# Altium footprint library CommonFiles_Library.PcbLib: 24 footprints (part 1 of 2)
Each footprint in its own frame and in the unit in brackets; x right, y up, seen from the top. Pads: shape width x height; smd on the part's side, far side on the other; paste and mask are expansions set on the pad; w line width, h text height; cw(c..) or ccw(c..) is an arc to the next point about the centre after c.
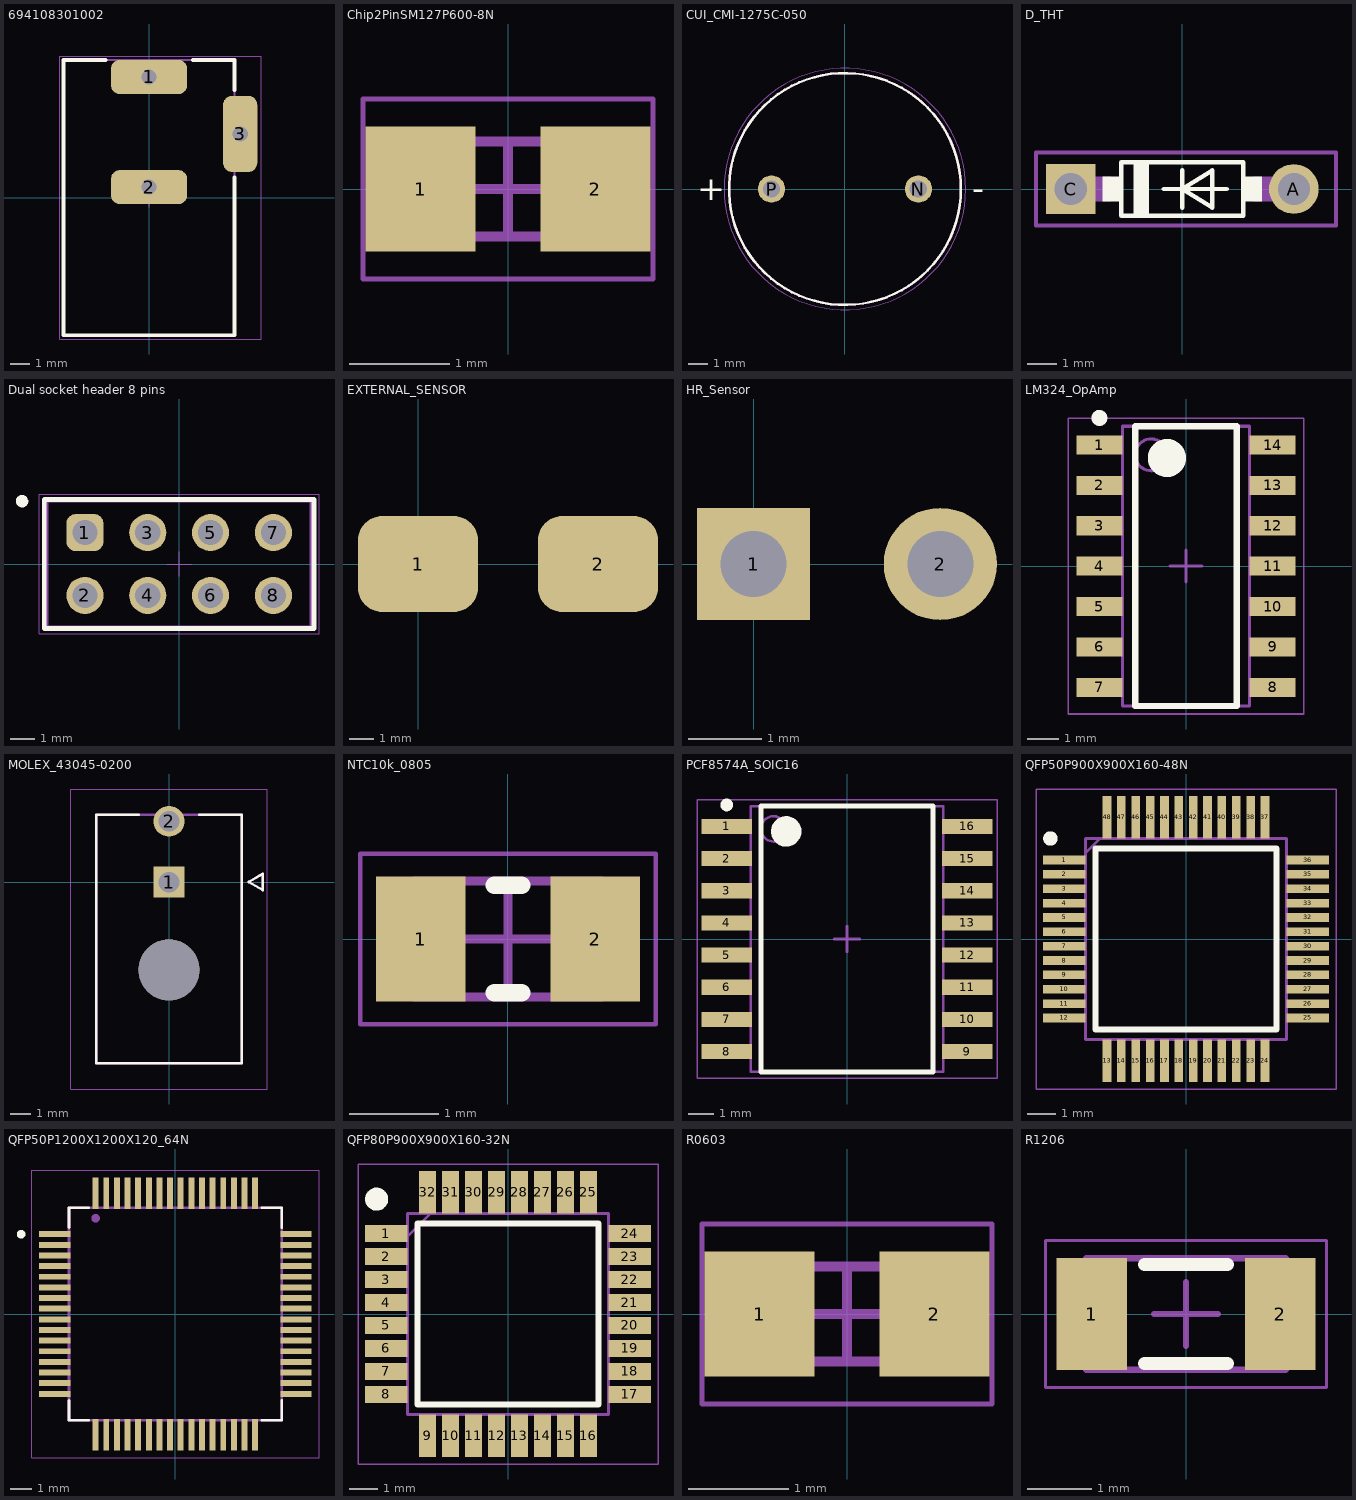
[diagram p0: the footprints below, top view; thin cyan lines are the x and y axes]

## 694108301002 [mm] "DC Power Jack Right Angled(6.4)"
height 10.7
pads (3):
  rrect50% 4x1.8 hole 0.8 square: 1(0,6.35) 2(0,0.55)
  rrect50% 1.8x4 hole 0.8 square: 3(4.8,3.35)
Top Overlay:
  lines w0.2: -2.3,7.25 -4.5,7.25 -4.5,-7.25 4.5,-7.25 4.5,1.05 ; 2.3,7.25 4.5,7.25 4.5,5.65
Top Designator:
  text ".Designator" at -7.498,-0.5 h1.5
Top Component Outline:
  lines w0.1: -4.5,-7.25 -4.5,7.25 4.5,7.25 4.5,-7.25 -4.5,-7.25
Top 3D Body:
  lines w0.1: -4.5,-7.25 4.5,-7.25 4.5,7.25 -4.5,7.25 -4.5,-7.25
Top Courtyard:
  lines w0.05: -0.5,0 0.5,0 ; 0,-0.5 0,0.5 ; -4.7,-7.45 -4.7,7.45 5.9,7.45 5.9,-7.45 -4.7,-7.45
3D body "694108301002.stp": height 10.75, standoff -3.75, extent -4.5,-7.25 5,7.25

## Chip2PinSM127P600-8N [mm]
height 0.97
pads (2):
  rect 1.1x1.25 smd: 1(-0.875,0) 2(0.875,0)
Top 3D Body:
  lines w0.1: -0.825,-0.475 0.825,-0.475 0.825,0.475 -0.825,0.475 -0.825,-0.475
Top Courtyard:
  lines w0.05: -1.45,-0.9 1.45,-0.9 1.45,0.9 -1.45,0.9 -1.45,-0.9
  lines w0.1: -0.475,0 0.475,0 ; 0,-0.475 0,0.475
3D body "Chip2PinSM127P600-8N.step": height 0.97, standoff 0, extent -0.825,-0.475 0.825,0.475

## CUI_CMI-1275C-050 [mm]
pads (2):
  round 1.408 hole 0.9: N(3.8,0) P(-3.8,0)
Top Overlay:
  circle w0.127: c0,0 r6
  text "-" at 6.593,-0.571 h1.27
  text "+" at -7.656,-0.571 h1.27
Top 3D Body:
  circle w0.127: c0,0 r6
Top Courtyard:
  circle w0.05: c0,0 r6.25
3D body "CMI-1275C-050.stp": height 8.1, standoff -5, extent -6,-5.988 6,5.988

## D_THT [mm]
pads (2):
  round 1.7 hole 1.1: A(3.81,0)
  rect 1.7x1.7 hole 1.1: C(-3.81,0)
Top Overlay:
  region: -2.082,-0.425 -2.718,-0.425 -2.718,0.425 -2.082,0.425
  region: 2.717,-0.425 2.083,-0.425 2.083,0.425 2.717,0.425
  region: -1.143,-0.951 -1.652,-0.951 -1.652,0.92 -1.143,0.92
  lines w0.152: -0.635,0 0,0 ; 0,-0.635 0,0 ; 0,0.635 0,0 ; 1.524,0 0,0 ; 0,0 1.016,0.635 1.016,-0.635 0,0 ; -2.082,-0.92 -2.082,0.92 2.082,0.92 2.082,-0.92 -2.082,-0.92
Top 3D Body:
  lines w0.85: -3.81,0 -2.519,0 ; 2.494,0 3.81,0
Top Courtyard:
  lines w0.127: -5,-1.25 -5,1.25 5.25,1.25 5.25,-1.25 -5,-1.25

## Dual socket header 8 pins [mm] "Socket Header, Pitch 2.54 mm, THT, Vertical, dual row, 8p"
height 8.4
pads (8):
  rrect50% 1.5x1.5 hole 1.02: 1(-3.81,1.27)
  round 1.5 hole 1.02: 2(-3.81,-1.27) 3(-1.27,1.27) 4(-1.27,-1.27) 5(1.27,1.27) 6(1.27,-1.27) 7(3.81,1.27) 8(3.81,-1.27)
Top Overlay:
  lines w0.2: -5.455,-2.615 5.455,-2.615 5.455,2.615 -5.455,2.615 -5.455,-2.615
  lines w0.25: -6.262,2.628 ccw(c-6.35,2.54) -6.225,2.54
Top Designator:
  text ".Designator" at -7.498,-0.5 h1.5
Top Component Outline:
  lines w0.1: -5.33,-2.54 -5.33,2.54 5.33,2.54 5.33,-2.54 -5.33,-2.54
Top Courtyard:
  lines w0.05: -5.655,-2.815 -5.655,2.815 5.655,2.815 5.655,-2.815 -5.655,-2.815
Top Component Center:
  lines w0.05: -0.5,0 0.5,0 ; 0,-0.5 0,0.5
3D body "61300821821.stp": height 8.45, standoff -3.05, extent -5.33,-2.54 5.33,2.54

## EXTERNAL_SENSOR [mm] "2 PADS FOR EXTERNAL SOLDERING"
pads (2):
  rrect50% 5x4 smd: 1(0,0) 2(7.5,0)

## HR_Sensor [mm]
pads (2):
  rect 1.54x1.524 hole 0.9: 1(0,0)
  oval 1.54x1.524 hole 0.9: 2(2.54,0)

## LM324_OpAmp [mm] "SOIC, 14-Leads, Body 8,65x3,90mm, Pitch 1,27mm, IPC Medium Density"
height 1.5
pads (14):
  rect 1.45x0.6 smd: 1(-2.725,3.81) 2(-2.725,2.54) 3(-2.725,1.27) 4(-2.725,0) 5(-2.725,-1.27) 6(-2.725,-2.54) 7(-2.725,-3.81) 8(2.725,-3.81) 9(2.725,-2.54) 10(2.725,-1.27) 11(2.725,0) 12(2.725,1.27) 13(2.725,2.54) 14(2.725,3.81)
Top Overlay:
  circle w0.25: c-2.725,4.66 r0.125
  circle w0.6: c-0.6,3.4 r0.3
  lines w0.2: -1.6,-4.4 -1.6,4.4 1.6,4.4 1.6,-4.4 -1.6,-4.4
Top 3D Body:
  circle w0.1: c-1.1,3.5 r0.5
  lines w0.1: -2,-4.4 -2,4.4 2,4.4 2,-4.4 -2,-4.4
Top Courtyard:
  lines w0.05: -3.7,-4.65 -3.7,4.65 3.7,4.65 3.7,-4.65 -3.7,-4.65
  lines w0.1: -0.5,0 0.5,0 ; 0,-0.5 0,0.5
3D body "LM324_OpAmp.step": height 1.5, standoff 0, extent -3,-4.4 3,4.4

## MOLEX_43045-0200 [mm]
height 8.77
pads (3):
  rect 1.52x1.52 hole 1.02 mask+0.076: 1(0,0)
  round 1.52 hole 1.02 mask+0.076: 2(0,3)
  round 3 hole 3 unplated mask+0.076: ""(0,-4.32)
Top Overlay:
  lines w0.127: -1.5,3.32 -3.575,3.32 -3.575,-8.92 3.575,-8.92 3.575,3.32 1.5,3.32 ; 3.92,0.01 4.62,-0.39 4.62,0.41 3.92,0.01
Top 3D Body:
  lines w0.127: -3.575,-8.92 -3.575,3.32 3.575,3.32 3.575,-8.92 -3.575,-8.92 ; 3.92,0.01 4.62,-0.39 4.62,0.41 3.92,0.01
Top Courtyard:
  lines w0.05: -4.845,-10.19 -4.845,4.59 4.845,4.59 4.845,-10.19 -4.845,-10.19
3D body "step_temp.STEP": height 9.4, standoff -2.55, extent -3.575,-8.892 3.575,3.348

## NTC10k_0805 [mm] "Chip Resistor, 2-Leads, Body 1,00x0,50mm, IPC Medium Density"
height 0.8
pads (2):
  rect 1x1.4 smd: 1(-0.975,0) 2(0.975,0)
Top Overlay:
  lines w0.2: -0.15,-0.6 0.15,-0.6 ; -0.15,0.6 0.15,0.6
Top 3D Body:
  lines w0.1: -1.05,-0.65 1.05,-0.65 1.05,0.65 -1.05,0.65 -1.05,-0.65
Top Courtyard:
  lines w0.05: -1.65,-0.95 1.65,-0.95 1.65,0.95 -1.65,0.95 -1.65,-0.95
  lines w0.1: -0.5,0 0.5,0 ; 0,-0.5 0,0.5
3D body "NTC10k_0805.step": height 0.8, standoff 0, extent -1.05,-0.65 1.05,0.65

## PCF8574A_SOIC16 [mm]
height 2.65
pads (16):
  rect 2x0.6 smd: 1(-4.75,4.445) 2(-4.75,3.175) 3(-4.75,1.905) 4(-4.75,0.635) 5(-4.75,-0.635) 6(-4.75,-1.905) 7(-4.75,-3.175) 8(-4.75,-4.445) 9(4.75,-4.445) 10(4.75,-3.175) 11(4.75,-1.905) 12(4.75,-0.635) 13(4.75,0.635) 14(4.75,1.905) 15(4.75,3.175) 16(4.75,4.445)
Top Overlay:
  circle w0.6: c-2.4,4.25 r0.3
  circle w0.25: c-4.75,5.295 r0.125
  lines w0.2: -3.4,-5.25 3.4,-5.25 3.4,5.25 -3.4,5.25 -3.4,-5.25
Top 3D Body:
  circle w0.1: c-2.9,4.35 r0.5
  lines w0.1: -3.8,-5.25 3.8,-5.25 3.8,5.25 -3.8,5.25 -3.8,-5.25
Top Courtyard:
  lines w0.05: -5.925,-5.5 5.925,-5.5 5.925,5.5 -5.925,5.5 -5.925,-5.5
  lines w0.1: -0.5,0 0.5,0 ; 0,-0.5 0,0.5
3D body "PCF8574A_SOIC16.step": height 2.65, standoff 0, extent -5.15,-5.25 5.15,5.25

## QFP50P900X900X160-48N [mm]
pads (48):
  rect 1.475x0.3 smd: 1(-4.238,2.75) 2(-4.238,2.25) 3(-4.238,1.75) 4(-4.238,1.25) 5(-4.238,0.75) 6(-4.238,0.25) 7(-4.238,-0.25) 8(-4.238,-0.75) 9(-4.238,-1.25) 10(-4.238,-1.75) 11(-4.238,-2.25) 12(-4.238,-2.75) 25(4.238,-2.75) 26(4.238,-2.25) 27(4.238,-1.75) 28(4.238,-1.25) 29(4.238,-0.75) 30(4.238,-0.25) 31(4.238,0.25) 32(4.238,0.75) 33(4.238,1.25) 34(4.238,1.75) 35(4.238,2.25) 36(4.238,2.75)
  rect 0.3x1.475 smd: 13(-2.75,-4.238) 14(-2.25,-4.238) 15(-1.75,-4.238) 16(-1.25,-4.238) 17(-0.75,-4.238) 18(-0.25,-4.238) 19(0.25,-4.238) 20(0.75,-4.238) 21(1.25,-4.238) 22(1.75,-4.238) 23(2.25,-4.238) 24(2.75,-4.238) 37(2.75,4.238) 38(2.25,4.238) 39(1.75,4.238) 40(1.25,4.238) 41(0.75,4.238) 42(0.25,4.238) 43(-0.25,4.238) 44(-0.75,4.238) 45(-1.25,4.238) 46(-1.75,4.238) 47(-2.25,4.238) 48(-2.75,4.238)
Top Overlay:
  circle w0.25: c-4.725,3.5 r0.125
  lines w0.2: -3.15,-3.15 3.15,-3.15 3.15,3.15 -3.15,3.15 -3.15,-3.15
Top Courtyard:
  lines w0.1: -3.5,3 -3,3.5 ; -3.5,-3.5 3.5,-3.5 3.5,3.5 -3.5,3.5 -3.5,-3.5
Mechanical 20:
  lines w0.05: -5.225,-5.225 5.225,-5.225 5.225,5.225 -5.225,5.225 -5.225,-5.225
3D body "STM32L412C8T6.stp": height 1.6, standoff 0, extent -4.5,-4.5 4.5,4.5

## QFP50P1200X1200X120_64N [mm]
pads (64):
  rect 1.47x0.28 smd: 1(-5.67,3.75) 2(-5.67,3.25) 3(-5.67,2.75) 4(-5.67,2.25) 5(-5.67,1.75) 6(-5.67,1.25) 7(-5.67,0.75) 8(-5.67,0.25) 9(-5.67,-0.25) 10(-5.67,-0.75) 11(-5.67,-1.25) 12(-5.67,-1.75) 13(-5.67,-2.25) 14(-5.67,-2.75) 15(-5.67,-3.25) 16(-5.67,-3.75) 33(5.67,-3.75) 34(5.67,-3.25) 35(5.67,-2.75) 36(5.67,-2.25) 37(5.67,-1.75) 38(5.67,-1.25) 39(5.67,-0.75) 40(5.67,-0.25) 41(5.67,0.25) 42(5.67,0.75) 43(5.67,1.25) 44(5.67,1.75) 45(5.67,2.25) 46(5.67,2.75) 47(5.67,3.25) 48(5.67,3.75)
  rect 0.28x1.47 smd: 17(-3.75,-5.67) 18(-3.25,-5.67) 19(-2.75,-5.67) 20(-2.25,-5.67) 21(-1.75,-5.67) 22(-1.25,-5.67) 23(-0.75,-5.67) 24(-0.25,-5.67) 25(0.25,-5.67) 26(0.75,-5.67) 27(1.25,-5.67) 28(1.75,-5.67) 29(2.25,-5.67) 30(2.75,-5.67) 31(3.25,-5.67) 32(3.75,-5.67) 49(3.75,5.67) 50(3.25,5.67) 51(2.75,5.67) 52(2.25,5.67) 53(1.75,5.67) 54(1.25,5.67) 55(0.75,5.67) 56(0.25,5.67) 57(-0.25,5.67) 58(-0.75,5.67) 59(-1.25,5.67) 60(-1.75,5.67) 61(-2.25,5.67) 62(-2.75,5.67) 63(-3.25,5.67) 64(-3.75,5.67)
Top Overlay:
  circle w0.2: c-7.25,3.75 r0.1
  lines w0.127: -5,-4.07 -5,-5 -4.07,-5 ; -5,4.07 -5,5 -4.07,5 ; 4.07,-5 5,-5 5,-4.07 ; 4.07,5 5,5 5,4.07
Top 3D Body:
  circle w0.2: c-3.75,4.5 r0.1
  lines w0.127: -5,-5 -5,5 5,5 5,-5 -5,-5
Top Courtyard:
  lines w0.05: -6.75,-6.75 -6.75,6.75 6.75,6.75 6.75,-6.75 -6.75,-6.75
3D body "step_temp.STEP": height 1.18, standoff -0.02, extent -6,-6 6,6

## QFP80P900X900X160-32N [mm]
pads (32):
  rect 1.475x0.6 smd: 1(-4.238,2.8) 2(-4.238,2) 3(-4.238,1.2) 4(-4.238,0.4) 5(-4.238,-0.4) 6(-4.238,-1.2) 7(-4.238,-2) 8(-4.238,-2.8) 17(4.238,-2.8) 18(4.238,-2) 19(4.238,-1.2) 20(4.238,-0.4) 21(4.238,0.4) 22(4.238,1.2) 23(4.238,2) 24(4.238,2.8)
  rect 0.6x1.475 smd: 9(-2.8,-4.238) 10(-2,-4.238) 11(-1.2,-4.238) 12(-0.4,-4.238) 13(0.4,-4.238) 14(1.2,-4.238) 15(2,-4.238) 16(2.8,-4.238) 25(2.8,4.238) 26(2,4.238) 27(1.2,4.238) 28(0.4,4.238) 29(-0.4,4.238) 30(-1.2,4.238) 31(-2,4.238) 32(-2.8,4.238)
Top Overlay:
  circle w0.4: c-4.575,4 r0.2
  lines w0.2: -3.15,-3.15 3.15,-3.15 3.15,3.15 -3.15,3.15 -3.15,-3.15
Top Courtyard:
  lines w0.1: -3.5,2.7 -2.7,3.5 ; -3.5,-3.5 3.5,-3.5 3.5,3.5 -3.5,3.5 -3.5,-3.5
Mechanical 20:
  lines w0.05: -5.225,-5.225 5.225,-5.225 5.225,5.225 -5.225,5.225 -5.225,-5.225

## R0603 [mm]
height 0.5
pads (2):
  rect 1.1x1.25 smd: 1(-0.875,0) 2(0.875,0)
Top 3D Body:
  lines w0.1: -0.825,-0.475 0.825,-0.475 0.825,0.475 -0.825,0.475 -0.825,-0.475
Top Courtyard:
  lines w0.05: -1.45,-0.9 1.45,-0.9 1.45,0.9 -1.45,0.9 -1.45,-0.9
  lines w0.1: -0.475,0 0.475,0 ; 0,-0.475 0,0.475
3D body "R0603.step": height 0.5, standoff 0, extent -0.825,-0.475 0.825,0.475

## R1206 [mm] "Chip Resistor, 2-Leads, Body 3,10x1,60mm, IPC Medium Density"
height 0.65
pads (2):
  rect 1.1x1.75 smd: 1(-1.475,0) 2(1.475,0)
Top Overlay:
  lines w0.2: -0.65,-0.775 0.65,-0.775 ; -0.65,0.775 0.65,0.775
Top 3D Body:
  lines w0.1: -1.56,-0.875 -1.56,0.875 1.56,0.875 1.56,-0.875 -1.56,-0.875
Top Courtyard:
  lines w0.05: -2.2,-1.15 -2.2,1.15 2.2,1.15 2.2,-1.15 -2.2,-1.15
  lines w0.1: -0.5,0 0.5,0 ; 0,-0.5 0,0.5
3D body "R1206.step": height 0.65, standoff 0, extent -1.56,-0.875 1.56,0.875